# EAGLE library part I7C4W012A050V-0C1-R (library i7C4W012A050V-0C1-R)
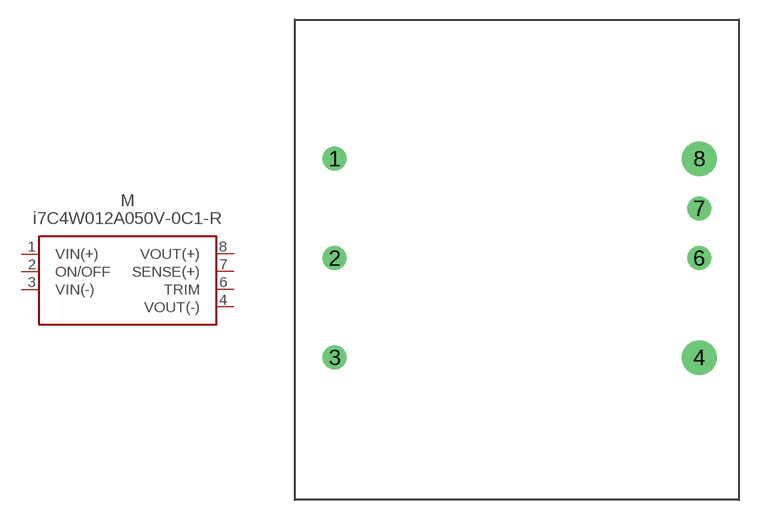
[diagram p0: symbol with the pads of I7C4W012A050V-001-R; footprint I7C4W012A050V-001-R]

Designator prefix M

## I7C4W012A050V-0C1-R  [I7C4W012A050V-001-R]
1  VIN(+)
2  ON/OFF
3  VIN(-)
4  VOUT(-)
6  TRIM
7  SENSE(+)
8  VOUT(+)

## Footprint I7C4W012A050V-001-R (pad centres in mm)
drill 1.22 pad 1.83: 1 -13.97,7.745; 2 -13.97,0.125; 3 -13.97,-7.495; 6 13.97,0.125; 7 13.97,3.935
drill 1.77 pad 2.655: 4 13.97,-7.495; 8 13.97,7.745